# EAGLE library part TOUCH-MPR121QR2 (library Seeed-OPL-sensor)
314160001
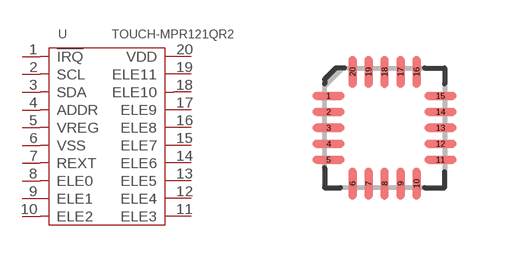
[diagram p16: symbol with the pads of QFN20-0.4-3X3M; footprint QFN20-0.4-3X3M]

Designator prefix U

## TOUCH-MPR121QR2  [QFN20-0.4-3X3M]
1  !IRQ
2  SCL
3  SDA
4  ADDR
5  VREG
6  VSS
7  REXT
8  ELE0
9  ELE1
10  ELE2
11  ELE3
12  ELE4
13  ELE5
14  ELE6
15  ELE7
16  ELE8
17  ELE9
18  ELE10
19  ELE11
20  VDD

## Footprint QFN20-0.4-3X3M (pad centres in mm)
smd 0.8 x 0.2: 1 -1.4,0.8; 2 -1.4,0.4; 3 -1.4,0; 4 -1.4,-0.4; 5 -1.4,-0.8; 11 1.4,-0.8; 12 1.4,-0.4; 13 1.4,0; 14 1.4,0.4; 15 1.4,0.8
smd 0.2 x 0.8: 6 -0.8,-1.4; 7 -0.4,-1.4; 8 0,-1.4; 9 0.4,-1.4; 10 0.8,-1.4; 16 0.8,1.4; 17 0.4,1.4; 18 0,1.4; 19 -0.4,1.4; 20 -0.8,1.4